# Altium schematic symbol library A9G-dev_V1.2.SCHLIB: 25 symbols
Pins are listed as number, name and electrical type; pins without a type are passive.

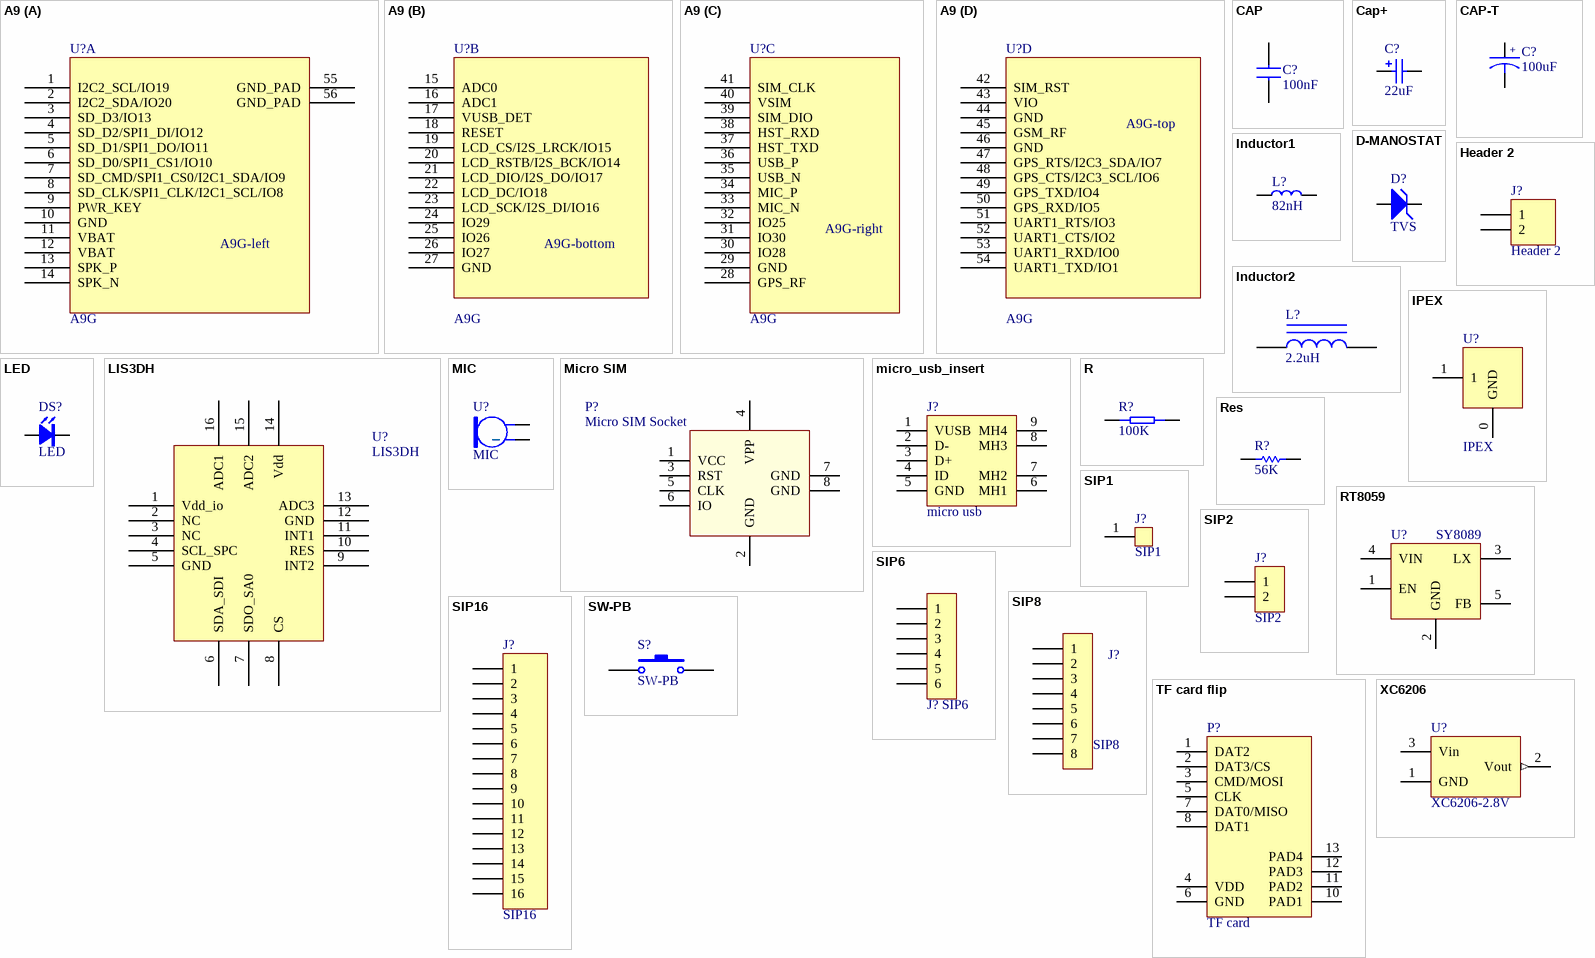
[diagram p0: symbols A9 to XC6206]

## A9
designator U?, comment A9G
footprint A9
part A pins: 1 I2C2_SCL/IO19, 2 I2C2_SDA/IO20, 3 SD_D3/IO13, 4 SD_D2/SPI1_DI/IO12, 5 SD_D1/SPI1_DO/IO11, 6 SD_D0/SPI1_CS1/IO10, 7 SD_CMD/SPI1_CS0/I2C1_SDA/IO9, 8 SD_CLK/SPI1_CLK/I2C1_SCL/IO8, 9 PWR_KEY, 10 GND, 11 VBAT, 12 VBAT, 13 SPK_P, 14 SPK_N, 55 GND_PAD, 56 GND_PAD
part B pins: 15 ADC0, 16 ADC1, 17 VUSB_DET, 18 RESET, 19 LCD_CS/I2S_LRCK/IO15, 20 LCD_RSTB/I2S_BCK/IO14, 21 LCD_DIO/I2S_DO/IO17, 22 LCD_DC/IO18, 23 LCD_SCK/I2S_DI/IO16, 24 IO29, 25 IO26, 26 IO27, 27 GND
part C pins: 28 GPS_RF, 29 GND, 30 IO28, 31 IO30, 32 IO25, 33 MIC_N, 34 MIC_P, 35 USB_N, 36 USB_P, 37 HST_TXD, 38 HST_RXD, 39 SIM_DIO, 40 VSIM, 41 SIM_CLK
part D pins: 42 SIM_RST, 43 VIO, 44 GND, 45 GSM_RF, 46 GND, 47 GPS_RTS/I2C3_SDA/IO7, 48 GPS_CTS/I2C3_SCL/IO6, 49 GPS_TXD/IO4, 50 GPS_RXD/IO5, 51 UART1_RTS/IO3, 52 UART1_CTS/IO2, 53 UART1_RXD/IO0, 54 UART1_TXD/IO1
part A text: A9G-left
part B text: A9G-bottom
part C text: A9G-right
part D text: A9G-top

## CAP
designator C?, comment 100nF
SMD-CAP
footprint 0603C
footprint 0805C
footprint 1206C
footprint C_CCB
footprint 0402C
pins: 1, 2

## Cap+
designator C?, comment 22uF
footprint B3528
footprint C0805
pins: 1, 2

## CAP-T
designator C?, comment 100uF
钽电容
footprint 6032C
footprint 7343C
footprint 3528C
footprint 3216C
pins: 1, 2
text: +

## D-MANOSTAT
designator D?, comment TVS
manostat diode
footprint DO-41
footprint DO-35
footprint 0603D
pins: A 1, K 2

## Header 2
designator J?
Header, 2-Pin; LatestRevisionDate: 17-Jul-2002; LatestRevisionNote: Re-released for DXP Platform.; Publisher: Altium Limited
footprint HDR1X2 (Connector; Header; 2 Position)
signal-integrity model Connector
pins: 1, 2

## Inductor1
designator L?, comment 82nH
footprint L3330
footprint L0402
footprint L0603
footprint L0805
pins: 1, 2

## Inductor2
designator L?, comment 2.2uH
footprint L5050
footprint L3330
pins: 1, 2

## IPEX
designator U?
footprint IPEX
footprint IPEX_SHORT
pins: 0 GND, 1

## LED
designator DS?
footprint 0805D
footprint LED-5
footprint 0603D
footprint 0603D_R
footprint 0603D_B
pins: A 1, K 2

## LIS3DH
designator U?
footprint LGA-16
pins: 1 Vdd_io, 2 NC, 3 NC, 4 SCL_SPC, 5 GND, 6 SDA_SDI, 7 SDO_SA0, 8 CS, 9 INT2, 10 RES, 11 INT1, 12 GND, 13 ADC3, 14 Vdd, 15 ADC2, 16 ADC1

## MIC
designator U?
footprint SIP2-2.54
footprint MIC_4013_smt
footprint mic_4015
pins: 1, 2

## Micro SIM
designator P?, comment Micro SIM Socket
footprint SIM
pins: 1 VCC, 2 GND, 3 RST, 4 VPP, 5 CLK, 6 IO, 7 GND, 8 GND

## micro_usb_insert
designator J?, comment micro usb
footprint USB_MICRO_insert
pins: 1 VUSB, 2 D-, 3 D+, 4 ID, 5 GND, 6 MH1, 7 MH2, 8 MH3, 9 MH4

## R
designator R?, comment 100K
footprint 0805R
footprint R-AXIAL0.3
footprint R-AXIAL0.4
footprint 0402R
pins: 1, 2

## Res
designator R?, comment 56K
footprint R0402
footprint R0603
footprint R1206
footprint R0402-L
pins: 1, 2

## RT8059
designator U?, comment SY8089
footprint SOT23-5
pins: 1 EN "Chip Enable Mode Switch", 2 GND "Ground", 3 LX "Switching Output", 4 VIN "Power Input", 5 FB "Output Voltage Sense"

## SIP1
designator J?
Variable Resistor; Set Position: 0.5; Published: 8-Jun-2000; LatestRevisionDate: 17-Jul-2002; LatestRevisionNote: Re-released for DXP Platform.; PackageReference: AXIAL-0.6; Publisher: Altium Limited
footprint AXIAL-0.6 (Variable Resistor; 2 Leads)
simulation model VRES (Variable Resistor)
signal-integrity model Res Adj
footprint SIP1_2.54
pins: 1

## SIP2
designator J?
jointbar
footprint SIP2-2.0
footprint SIP2-2.54
footprint SIP2-2.54_short
pins: 1, 2

## SIP6
designator J?
jointbar
footprint SIP6-2.0
footprint SIP6-2.54
pins: 1, 2, 3, 4, 5, 6

## SIP8
designator J?
jointbar
footprint SIP8-2.0
footprint SIP8-2.54
footprint SIP8_1.27
pins: 1, 2, 3, 4, 5, 6, 7, 8

## SIP16
designator J?
jointbar
footprint SIP16-2.54
pins: 1, 2, 3, 4, 5, 6, 7, 8, 9, 10, 11, 12, 13, 14, 15, 16

## SW-PB
designator S?
Switch; Published: 24-Mar-1999; LatestRevisionDate: 17-Jul-2002; LatestRevisionNote: Re-released for DXP Platform.; PackageReference: SPST-2; Publisher: Altium Limited
footprint SPST-2 (Switch; 2 Leads)
footprint key2_3*4
pins: 1, 2

## TF card flip
designator P?, comment TF card
footprint TF_short
footprint TF_self-eject
pins: 1 DAT2, 2 DAT3/CS, 3 CMD/MOSI, 4 VDD, 5 CLK, 6 GND, 7 DAT0/MISO, 8 DAT1, 10 PAD1, 11 PAD2, 12 PAD3, 13 PAD4

## XC6206
designator U?, comment XC6206-2.8V
3.3V
footprint TO-92
footprint SOT-23
pins: 1 GND (power), 2 Vout (out), 3 Vin (power)